# Altium footprint library C_THT.PcbLib: 71 footprints (part 5 of 5)
Each footprint in its own frame and in the unit in brackets; x right, y up, seen from the top. Pads: shape width x height; smd on the part's side, far side on the other; paste and mask are expansions set on the pad; w line width, h text height; cw(c..) or ccw(c..) is an arc to the next point about the centre after c.
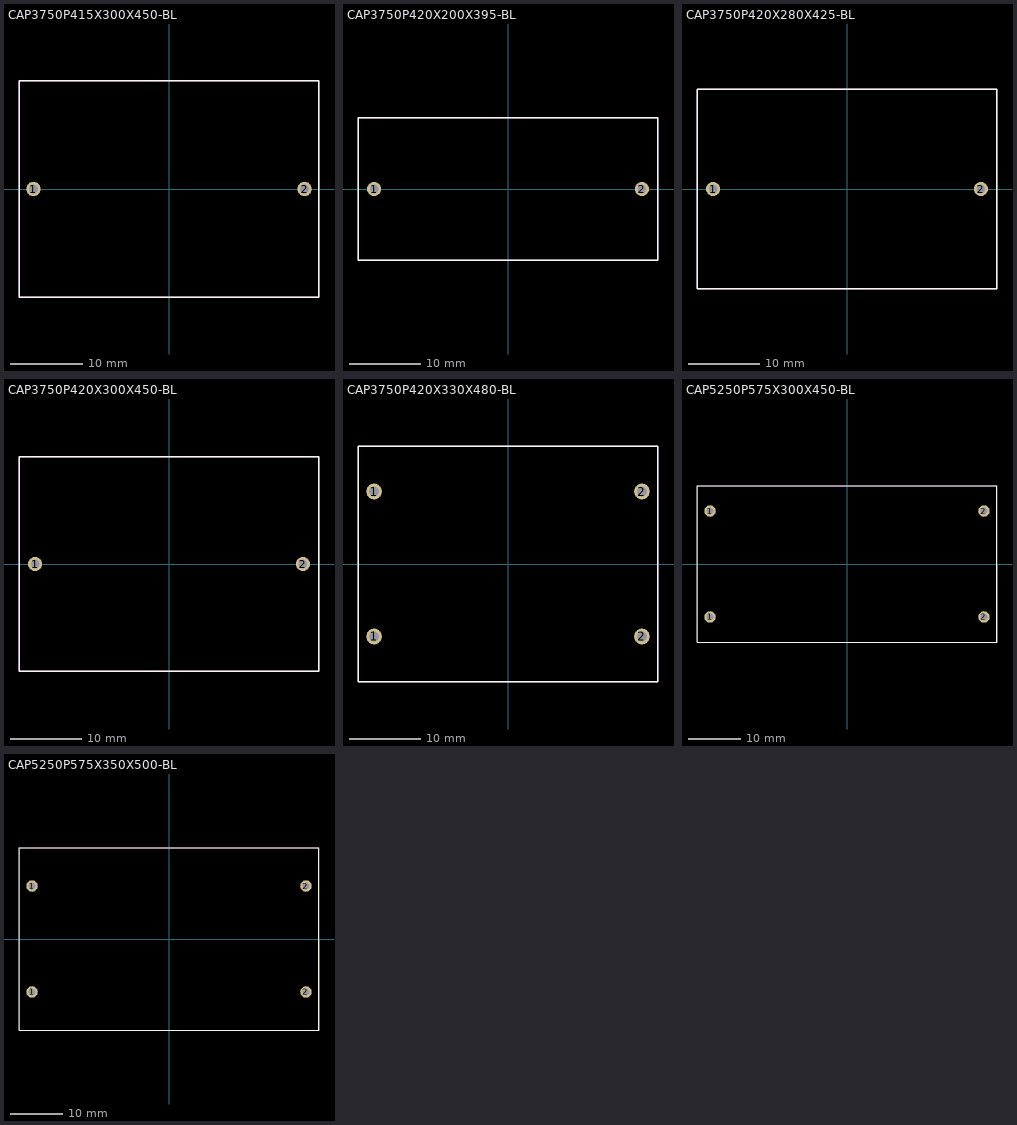
[diagram p4: the footprints below, top view; thin cyan lines are the x and y axes]

## CAP3750P415X300X450-BL [mm]
pads (2):
  round 2 hole 1.2: 1(-18.75,0) 2(18.75,0)
Top Overlay:
  lines w0.2: -20.75,-15 -20.75,15 20.75,15 20.75,-15 -20.75,-15
Top Assembly:
  lines w0.2: -20.75,-15 -20.75,15 20.75,15 20.75,-15 -20.75,-15
3D body: height 0, standoff -4, extent -19.25,-0.5 -18.25,0.5
3D body: height 0, standoff -4, extent 18.25,-0.5 19.25,0.5
3D body: height 45, standoff 0, extent -20.75,-15 20.75,15

## CAP3750P420X200X395-BL [mm]
pads (2):
  round 2 hole 1.2: 1(-18.75,0) 2(18.75,0)
Top Overlay:
  lines w0.2: -21,-10 -21,10 21,10 21,-10 -21,-10
Top Assembly:
  lines w0.2: -21,-10 -21,10 21,10 21,-10 -21,-10
3D body: height 0, standoff -4, extent -19.25,-0.5 -18.25,0.5
3D body: height 0, standoff -4, extent 18.25,-0.5 19.25,0.5
3D body: height 39.5, standoff 0, extent -21,-10 21,10

## CAP3750P420X280X425-BL [mm]
pads (2):
  round 2 hole 1.2: 1(-18.75,0) 2(18.75,0)
Top Overlay:
  lines w0.2: -21,-14 -21,14 21,14 21,-14 -21,-14
Top Assembly:
  lines w0.2: -21,-14 -21,14 21,14 21,-14 -21,-14
3D body: height 0, standoff -4, extent -19.25,-0.5 -18.25,0.5
3D body: height 0, standoff -4, extent 18.25,-0.5 19.25,0.5
3D body: height 42.5, standoff 0, extent -21,-14 21,14

## CAP3750P420X300X450-BL [mm]
pads (2):
  round 2 hole 1.2: 1(-18.75,0) 2(18.75,0)
Top Overlay:
  lines w0.2: -21,-15 -21,15 21,15 21,-15 -21,-15
Top Assembly:
  lines w0.2: -21,-15 -21,15 21,15 21,-15 -21,-15
3D body: height 0, standoff -4, extent -19.25,-0.5 -18.25,0.5
3D body: height 0, standoff -4, extent 18.25,-0.5 19.25,0.5
3D body: height 45, standoff 0, extent -21,-15 21,15

## CAP3750P420X330X480-BL [mm]
pads (4):
  round 2.2 hole 1.4: 1(-18.75,-10.15) 1(-18.75,10.15) 2(18.75,-10.15) 2(18.75,10.15)
Top Overlay:
  lines w0.2: -21,-16.5 21,-16.5 21,16.5 -21,16.5 -21,-16.5
Top Assembly:
  lines w0.2: -21,-16.5 21,-16.5 21,16.5 -21,16.5 -21,-16.5
3D body: height 0, standoff -4, extent 18.15,-10.75 19.35,-9.55
3D body: height 0, standoff -4, extent -19.35,-10.75 -18.15,-9.55
3D body: height 48, standoff 0, extent -21,-16.5 21,16.5
3D body: height 0, standoff -4, extent 18.15,9.55 19.35,10.75
3D body: height 0, standoff -4, extent -19.35,9.55 -18.15,10.75

## CAP5250P575X300X450-BL [mm]
pads (4):
  round 2.2 hole 1.4: 1(-26.25,-10.15) 1(-26.25,10.15) 2(26.25,-10.15) 2(26.25,10.15)
Top Overlay:
  lines w0.2: -28.75,-15 -28.75,15 28.75,15 28.75,-15 -28.75,-15
Top Assembly:
  lines w0.2: -28.75,-15 -28.75,15 28.75,15 28.75,-15 -28.75,-15
3D body: height 0, standoff -4, extent -26.85,9.55 -25.65,10.75
3D body: height 0, standoff -4, extent 25.65,9.55 26.85,10.75
3D body: height 45, standoff 0, extent -28.75,-15 28.75,15
3D body: height 0, standoff -4, extent -26.85,-10.75 -25.65,-9.55
3D body: height 0, standoff -4, extent 25.65,-10.75 26.85,-9.55

## CAP5250P575X350X500-BL [mm]
pads (4):
  round 2.2 hole 1.4: 1(-26.25,-10.15) 1(-26.25,10.15) 2(26.25,-10.15) 2(26.25,10.15)
Top Overlay:
  lines w0.2: -28.75,-17.5 -28.75,17.5 28.75,17.5 28.75,-17.5 -28.75,-17.5
Top Assembly:
  lines w0.2: -28.75,-17.5 -28.75,17.5 28.75,17.5 28.75,-17.5 -28.75,-17.5
3D body: height 0, standoff -4, extent -26.85,9.55 -25.65,10.75
3D body: height 0, standoff -4, extent 25.65,9.55 26.85,10.75
3D body: height 45, standoff 0, extent -28.75,-17.5 28.75,17.5
3D body: height 0, standoff -4, extent -26.85,-10.75 -25.65,-9.55
3D body: height 0, standoff -4, extent 25.65,-10.75 26.85,-9.55